# EAGLE library part 5000750517 (library EW_Connectors)
Micro USB Connector MOLEX
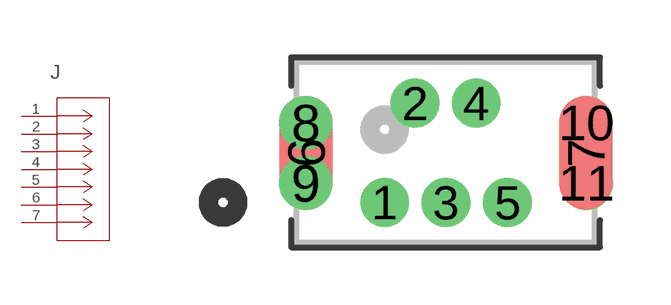
[diagram p207: symbol with the pads of CONN5_500075-0517_MOL; footprint CONN5_500075-0517_MOL]

Designator prefix J

## 5000750517 (COPYRIGHT: Copyright (C) 2021 Ultra Librarian. All rights reserved.; MANUFACTURER_PART_NUMBER: 5000750517; MFR_NAME: Molex Connector Corporation)  [CONN5_500075-0517_MOL]
1  1  pas
2  2  pas
3  3  pas
4  4  pas
5  5  pas
6  6  pas
7  7  pas

## Footprint CONN5_500075-0517_MOL (pad centres in mm)
drill 0.762 pad 1.27: 1 0,0; 2 0.787,2.591; 3 1.6,0; 4 2.388,2.591; 5 3.2,0
smd 1.397 x 2.972: 6 -2.05,1.3; 7 5.25,1.3
drill 0.889 pad 0.889: 8 -2.057,2.083; 9 -2.057,0.508; 10 5.258,2.083; 11 5.258,0.508